# Altium footprint library ESP32.PcbLib: 23 footprints (part 2 of 2)
Each footprint in its own frame and in the unit in brackets; x right, y up, seen from the top. Pads: shape width x height; smd on the part's side, far side on the other; paste and mask are expansions set on the pad; w line width, h text height; cw(c..) or ccw(c..) is an arc to the next point about the centre after c.
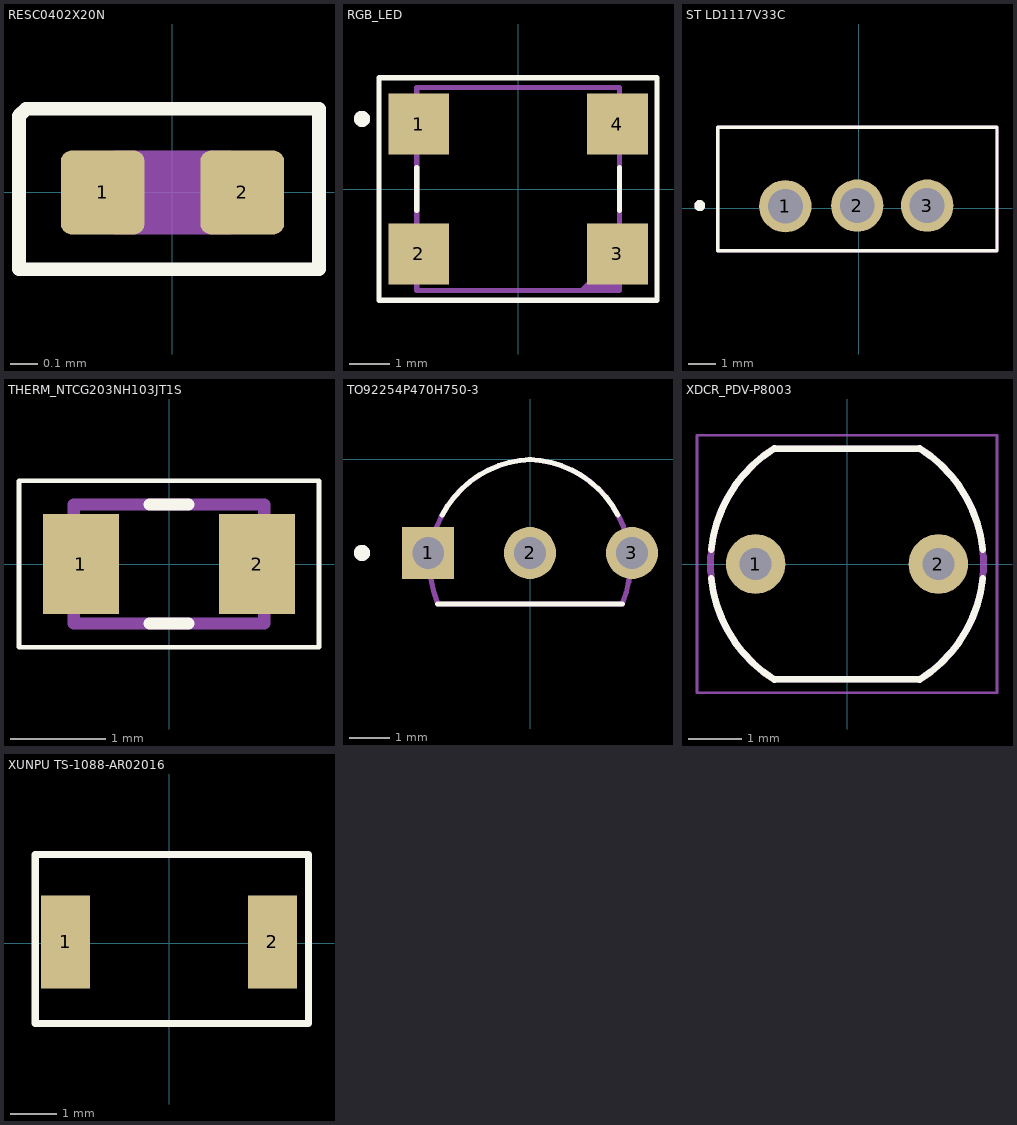
[diagram p1: the footprints below, top view; thin cyan lines are the x and y axes]

## RESC0402X20N [mm] "Chip Resistor, 2-Leads, Body 0.40x0.20mm, IPC Medium Density"
height 0.2
pads (2):
  rrect25% 0.3x0.3 smd: 1(-0.25,0) 2(0.25,0)
Top Overlay:
  lines w0.05: -0.55,-0.275 -0.55,0.275 -0.525,0.3 0.525,0.3 0.525,-0.275 -0.55,-0.275
Top Assembly:
  lines w0.1: -0.2,-0.1 -0.2,0.1 0.2,0.1 0.2,-0.1 -0.2,-0.1
Top Component Center:
  lines w0.1: -0.1,0 0.1,0 ; 0,-0.1 0,0.1
3D body: height 0.2, standoff 0, extent -0.13,-0.1 0.13,0.1
3D body: height 0.2, standoff 0, extent -0.2,-0.1 -0.13,0.1
3D body: height 0.2, standoff 0, extent 0.13,-0.1 0.2,0.1

## RGB_LED [mm]
pads (4):
  rect 1.5x1.5 smd: 1(-2.45,1.6) 2(-2.45,-1.6) 3(2.45,-1.6) 4(2.45,1.6)
Top Overlay:
  circle w0.2: c-3.85,1.73 r0.1
  lines w0.127: -2.5,-0.53 -2.5,0.53 ; 2.5,-0.53 2.5,0.53 ; -3.429,-2.743 -3.429,2.743 3.429,2.743 3.429,-2.743 -3.429,-2.743
Mechanical 13:
  circle w0.2: c-3.85,1.73 r0.1
  region: 2.5,-2.5 1.5,-2.5 2.5,-1.5
  lines w0.127: -2.5,-2.5 -2.5,2.5 2.5,2.5 2.5,-2.5 -2.5,-2.5
Mechanical 15:
  lines w0.05: -3.45,-2.75 -3.45,2.75 3.45,2.75 3.45,-2.75 -3.45,-2.75
3D body "step_temp.STEP": height 1.6, standoff 0, extent -2.7,-2.5 2.7,2.5

## ST LD1117V33C [mm]
pads (3):
  round 1.91 hole 1.27: 1(-2.675,0.075) 2(-0.05,0.1) 3(2.5,0.1)
Top Overlay:
  circle w0.2: c-5.8,0.1 r0.1
  lines w0.127: -5.15,-1.545 -5.15,2.955 5.05,2.955 5.05,-1.545 -5.15,-1.545
Mechanical 13:
  circle w0.2: c-5.8,0.1 r0.1
  lines w0.127: -5.15,-1.545 5.05,-1.545 5.05,2.955 -5.15,2.955 -5.15,-1.545
3D body "step_temp.STEP": height 19.68, standoff -9.22, extent -5.15,-1.545 5.05,2.955

## THERM_NTCG203NH103JT1S [mm]
height 0.9
pads (2):
  rect 0.8x1.05 smd: 1(-0.925,0) 2(0.925,0)
Top Overlay:
  lines w0.05: -1.575,-0.875 1.575,-0.875 1.575,0.875 -1.575,0.875 -1.575,-0.875
  lines w0.127: -0.205,-0.625 0.205,-0.625 ; -0.205,0.625 0.205,0.625
Mechanical 13:
  lines w0.127: -1,-0.625 1,-0.625 1,0.625 -1,0.625 -1,-0.625
3D body "step_temp.STEP": height 1.3, standoff 0, extent -1,-0.6 1,0.6

## TO92254P470H750-3 [mm]
height 7.5
pads (3):
  rect 1.298x1.298 / inner round 1.298 / far side rect 1.298x1.298 hole 0.79 mask+0.102: 1(-2.54,-2.33)
  round 1.298 hole 0.79 mask+0.102: 2(0,-2.33) 3(2.54,-2.33)
Top Overlay:
  circle w0.2: c-4.189,-2.33 r0.1
  lines w0.127: -2.3,-3.6 2.3,-3.6 ; -2.19,-1.381 cw(c0.112,-2.605) 0.021,0.001 ; -0.021,0.001 cw(c-0.112,-2.605) 2.19,-1.381
Mechanical 13:
  circle w0.2: c-4.189,-2.33 r0.1
  lines w0.127: -2.307,-3.582 cw(c0.11,-2.605) 0.019,0.001 ; -2.3,-3.6 2.3,-3.6 ; -0.019,0.001 cw(c-0.11,-2.605) 2.307,-3.582
3D body "step_temp.STEP": height 8.09, standoff -9.01, extent -2.74,-3.6 2.74,0

## XDCR_PDV-P8003 [mm]
pads (2):
  round 1.108 hole 0.6: 1(-1.7,0) 2(1.7,0)
Top Overlay:
  lines w0.127: -2.526,-0.265 ccw(c0.001,0.001) -1.346,-2.154 ; -2.526,0.265 cw(c0.001,-0.001) -1.346,2.154 ; -1.36,2.145 1.36,2.145 ; 1.346,-2.154 ccw(c-0.001,0.001) 2.526,-0.265 ; 1.346,2.154 cw(c-0.001,-0.001) 2.526,0.265 ; 1.36,-2.145 -1.36,-2.145 ; -1.36,-2.145 -1.36,-2.145 ; 1.36,2.145 1.36,2.145
Mechanical 13:
  lines w0.127: -1.36,-2.145 1.36,-2.145 ; -1.36,2.145 1.36,2.145 ; -1.346,-2.154 cw(c0,0) -1.346,2.154 ; 1.346,-2.154 ccw(c0,0) 1.346,2.154
Mechanical 15:
  lines w0.05: -2.79,-2.395 -2.79,2.395 2.79,2.395 2.79,-2.395 -2.79,-2.395
3D body "step_temp.STEP": height 2.38, standoff -26, extent -2.54,-2.145 2.54,2.145

## XUNPU TS-1088-AR02016 [mm] "SWITCH TACTILE SPST 160gf SMD"
pads (2):
  rect 1.05x2 smd: 1(-2.225,0.025) 2(2.225,0.025)
Top Overlay:
  lines w0.152: -2.875,1.9 -2.6,1.9 3,1.9 3,-1.725 -2.875,-1.725 -2.875,1.9 ; -2.875,1.9 -2.875,1.9
3D body "step_temp.STEP": height 2, standoff 0, extent -2.475,-1.35 2.325,1.55